# Altium schematic symbol library 0805_R.SchLib: 1 symbol
Pins are listed as number, name and electrical type; pins without a type are passive.

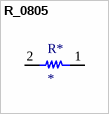
[diagram p0: symbol R_0805]

## R_0805
designator R*
Value: 0 Ohm
footprint 0805_FP
pins: 1, 2